# Altium footprint library TE_CONN_5535089-5.PcbLib: 1 footprints
Each footprint in its own frame and in the unit in brackets; x right, y up, seen from the top. Pads: shape width x height; smd on the part's side, far side on the other; paste and mask are expansions set on the pad; w line width, h text height; cw(c..) or ccw(c..) is an arc to the next point about the centre after c.
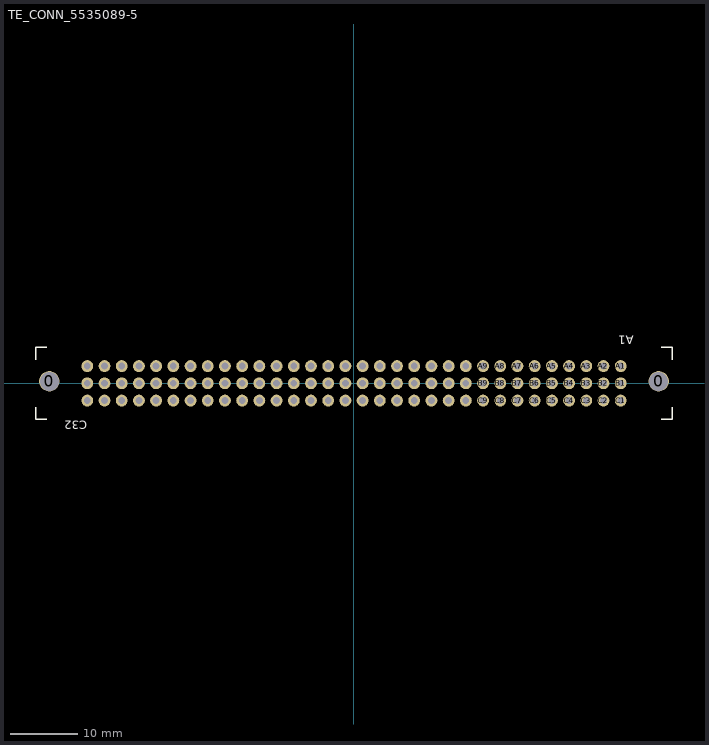
[diagram p0: the footprint, top view; thin cyan lines are the x and y axes]

## TE_CONN_5535089-5 [mm]
pads (98):
  round 3 hole 2.8: 0(-44.98,0.3) 0(44.98,0.3)
  round 1.75 hole 1: A1(39.37,2.54) A2(36.83,2.54) A3(34.29,2.54) A4(31.75,2.54) A5(29.21,2.54) A6(26.67,2.54) A7(24.13,2.54) A8(21.59,2.54) A9(19.05,2.54) A10(16.51,2.54) A11(13.97,2.54) A12(11.43,2.54) A13(8.89,2.54) A14(6.35,2.54) A15(3.81,2.54) A16(1.27,2.54) A17(-1.27,2.54) A18(-3.81,2.54) A19(-6.35,2.54) A20(-8.89,2.54) A21(-11.43,2.54) A22(-13.97,2.54) A23(-16.51,2.54) A24(-19.05,2.54) A25(-21.59,2.54) A26(-24.13,2.54) A27(-26.67,2.54) A28(-29.21,2.54) A29(-31.75,2.54) A30(-34.29,2.54) A31(-36.83,2.54) A32(-39.37,2.54) B1(39.37,0) B2(36.83,0) B3(34.29,0) B4(31.75,0) B5(29.21,0) B6(26.67,0) B7(24.13,0) B8(21.59,0) B9(19.05,0) B10(16.51,0) B11(13.97,0) B12(11.43,0) B13(8.89,0) B14(6.35,0) B15(3.81,0) B16(1.27,0) B17(-1.27,0) B18(-3.81,0) B19(-6.35,0) B20(-8.89,0) B21(-11.43,0) B22(-13.97,0) B23(-16.51,0) B24(-19.05,0) B25(-21.59,0) B26(-24.13,0) B27(-26.67,0) B28(-29.21,0) B29(-31.75,0) B30(-34.29,0) B31(-36.83,0) B32(-39.37,0) C1(39.37,-2.54) C2(36.83,-2.54) C3(34.29,-2.54) C4(31.75,-2.54) C5(29.21,-2.54) C6(26.67,-2.54) C7(24.13,-2.54) C8(21.59,-2.54) C9(19.05,-2.54) C10(16.51,-2.54) C11(13.97,-2.54) C12(11.43,-2.54) C13(8.89,-2.54) C14(6.35,-2.54) C15(3.81,-2.54) C16(1.27,-2.54) C17(-1.27,-2.54) C18(-3.81,-2.54) C19(-6.35,-2.54) C20(-8.89,-2.54) C21(-11.43,-2.54) C22(-13.97,-2.54) C23(-16.51,-2.54) C24(-19.05,-2.54) C25(-21.59,-2.54) C26(-24.13,-2.54) C27(-26.67,-2.54) C28(-29.21,-2.54) C29(-31.75,-2.54) C30(-34.29,-2.54) C31(-36.83,-2.54) C32(-39.37,-2.54)
Top Overlay:
  lines w0.2: -46.97,-3.5 -46.97,-5.3 -45.37,-5.3 ; -46.97,3.5 -46.97,5.3 -45.37,5.3 ; 45.37,-5.3 46.97,-5.3 46.97,-3.5 ; 45.37,5.3 46.97,5.3 46.97,3.5
  text "A1" at 41.27,7 h1.25
  text "C32" at -39.37,-5.5 h1.25
3D body "TE_CONN_5535089-5.stp": height 11.5, standoff -2.49, extent -46.927,-5.3 46.928,5.3